# Altium footprint library BL653u.PcbLib: 7 footprints
Each footprint in its own frame and in the unit in brackets; x right, y up, seen from the top. Pads: shape width x height; smd on the part's side, far side on the other; paste and mask are expansions set on the pad; w line width, h text height; cw(c..) or ccw(c..) is an arc to the next point about the centre after c.
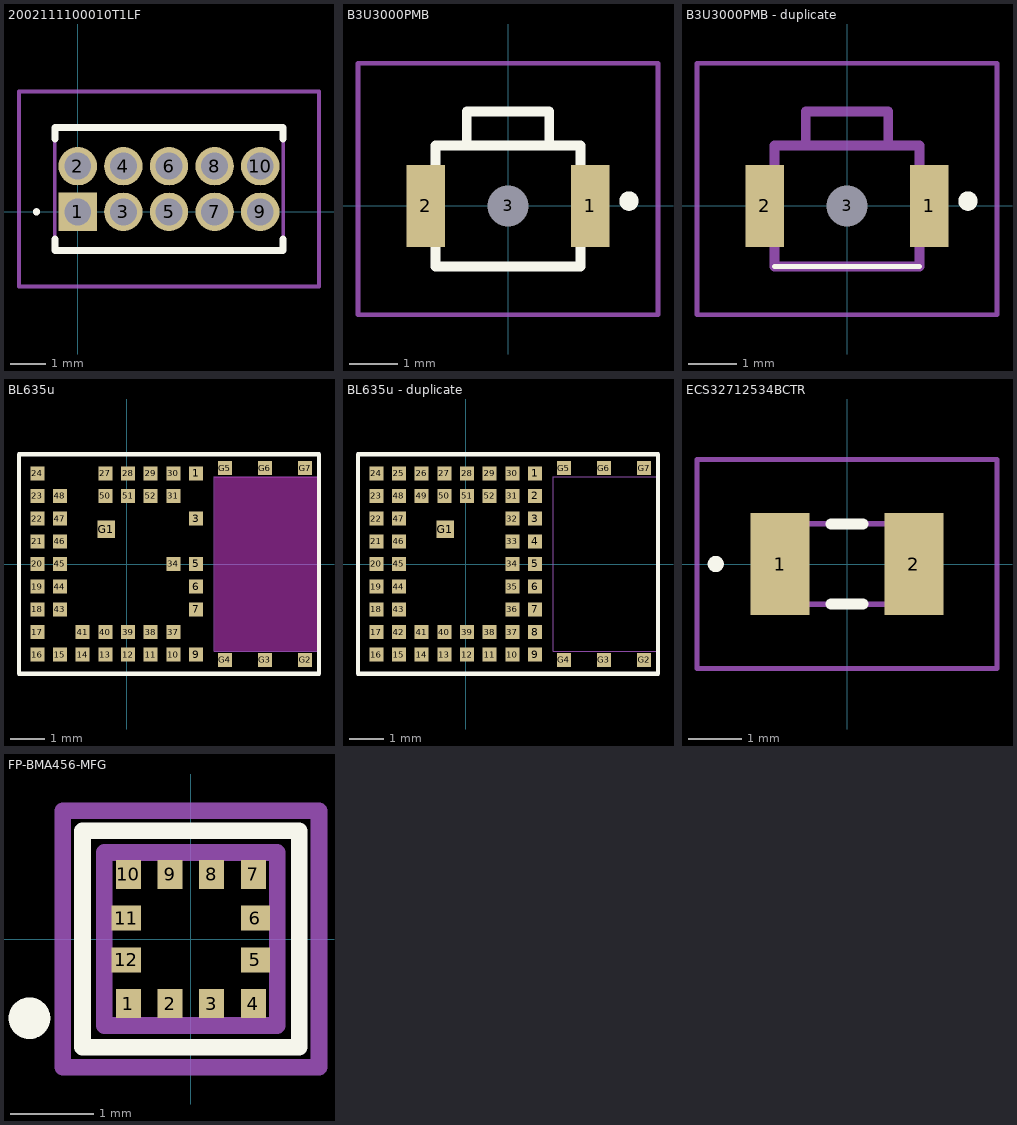
[diagram p0: the footprints below, top view; thin cyan lines are the x and y axes]

## 2002111100010T1LF [mm]
pads (10):
  rect 1.07x1.07 hole 0.75: 1(0,0)
  round 1.07 hole 0.75: 2(0,1.27) 3(1.27,0) 4(1.27,1.27) 5(2.54,0) 6(2.54,1.27) 7(3.81,0) 8(3.81,1.27) 9(5.08,0) 10(5.08,1.27)
Top Overlay:
  lines w0.1: -1.2,0 cw(c-1.15,0) -1.1,0 cw(c-1.15,0) -1.2,0
  lines w0.2: -0.635,-0.765 -0.635,-1.08 5.715,-1.08 5.715,-0.765 ; -0.635,2.035 -0.635,2.35 5.715,2.35 5.715,2.035
Top Component Outline:
  lines w0.1: -0.635,-1.08 -0.635,2.35 5.715,2.35 5.715,-1.08 -0.635,-1.08
Top Assembly:
  lines w0.1: -1.635,-2.08 -1.635,3.35 6.715,3.35 6.715,-2.08 -1.635,-2.08

## B3U3000PMB [mm]
pads (3):
  rect 0.8x1.7 smd: 1(1.7,0) 2(-1.7,0)
  round 0.425 hole 0.85 unplated: 3(0,0)
Top Overlay:
  lines w0.1: -1.5,-1.25 1.5,-1.25
  lines w0.2: -0.85,1.25 -0.85,1.95 0.85,1.95 0.85,1.25 ; -1.5,-1.25 1.5,-1.25 1.5,1.25 -1.5,1.25 -1.5,-1.25 ; 2.5,0 ccw(c2.5,0.1) 2.5,0.2 ccw(c2.5,0.1) 2.5,0
Top Assembly:
  lines w0.1: -3.1,-2.25 -3.1,2.95 3.1,2.95 3.1,-2.25 -3.1,-2.25

## B3U3000PMB - duplicate [mm]
pads (3):
  rect 0.8x1.7 smd: 1(1.7,0) 2(-1.7,0)
  round 0.425 hole 0.85 unplated: 3(0,0)
Top Overlay:
  lines w0.1: -1.5,-1.25 1.5,-1.25
  lines w0.2: 2.5,0 cw(c2.5,0.1) 2.5,0.2 cw(c2.5,0.1) 2.5,0
Top Component Outline:
  lines w0.2: -0.85,1.25 -0.85,1.95 0.85,1.95 0.85,1.25 ; -1.5,-1.25 1.5,-1.25 1.5,1.25 -1.5,1.25 -1.5,-1.25
Top Assembly:
  lines w0.1: -3.1,-2.25 3.1,-2.25 3.1,2.95 -3.1,2.95 -3.1,-2.25

## BL635u [mm]
pads (48):
  rect 0.4x0.4 smd mask+0.051: 1(1.982,2.6) 3(1.982,1.3) 5(1.982,0) 6(1.982,-0.65) 7(1.982,-1.3) 9(1.982,-2.6) 10(1.332,-2.6) 11(0.683,-2.6) 12(0.033,-2.6) 13(-0.617,-2.6) 14(-1.267,-2.6) 15(-1.917,-2.6) 16(-2.567,-2.6) 17(-2.567,-1.95) 18(-2.567,-1.3) 19(-2.567,-0.65) 20(-2.567,0) 21(-2.567,0.65) 22(-2.567,1.3) 23(-2.567,1.95) 24(-2.567,2.6) 27(-0.617,2.6) 28(0.033,2.6) 29(0.682,2.6) 30(1.333,2.6) 31(1.332,1.95) 34(1.332,0) 37(1.333,-1.95) 38(0.682,-1.95) 39(0.033,-1.95) 40(-0.617,-1.95) 41(-1.267,-1.95) 43(-1.917,-1.3) 44(-1.917,-0.65) 45(-1.917,0) 46(-1.917,0.65) 47(-1.917,1.3) 48(-1.917,1.95) 50(-0.617,1.95) 51(0.033,1.95) 52(0.683,1.95) G2(5.107,-2.75) G3(3.957,-2.75) G4(2.807,-2.75) G5(2.808,2.75) G6(3.957,2.75) G7(5.107,2.75)
  rect 0.5x0.5 smd mask+0.051: G1(-0.592,1)
Top Overlay:
  lines w0.127: -3.093,-3.15 -3.093,3.15 5.508,3.15 5.508,-3.15 -3.093,-3.15
Keep-Out Layer:
  rectangle: 2.507,-2.5 5.508,2.5
Top Component Outline:
  lines w0.025: 5.507,-2.5 2.507,-2.5 2.507,2.5 5.507,2.5 ; 5.508,-2.5 5.508,2.5
  text "Keep out Area" at 3.937,2.032 h0.38
Top Assembly:
  lines w0.025: -3.093,-3.15 -3.093,3.15 5.508,3.15 5.508,-3.15 -3.093,-3.15
3D body: height 0.01, standoff 0, extent -1.467,-2.8 -1.067,-2.4
3D body: height 0.01, standoff 0, extent -2.767,-2.8 -2.367,-2.4
3D body: height 0.01, standoff 0, extent -0.817,-2.8 -0.417,-2.4
3D body: height 0.01, standoff 0, extent -0.167,-2.8 0.233,-2.4
3D body: height 0.01, standoff 0, extent -0.817,-2.15 -0.417,-1.75
3D body: height 0.01, standoff 0, extent -1.467,-2.15 -1.067,-1.75
3D body: height 0.01, standoff 0, extent -2.767,-2.15 -2.367,-1.75
3D body: height 0.01, standoff 0, extent -0.167,-2.15 0.233,-1.75
3D body: height 0.01, standoff 0, extent -2.117,-1.5 -1.717,-1.1
3D body: height 0.01, standoff 0, extent -2.767,-1.5 -2.367,-1.1
3D body: height 0.01, standoff 0, extent -2.117,-0.85 -1.717,-0.45
3D body: height 0.01, standoff 0, extent -2.767,-0.85 -2.367,-0.45
3D body: height 0.01, standoff 0, extent -2.117,-0.2 -1.717,0.2
3D body: height 0.01, standoff 0, extent -2.767,-0.2 -2.367,0.2
3D body: height 0.01, standoff 0, extent -2.117,0.45 -1.717,0.85
3D body: height 0.01, standoff 0, extent -2.767,0.45 -2.367,0.85
3D body: height 0.01, standoff 0, extent -0.842,0.75 -0.342,1.25
3D body: height 0.01, standoff 0, extent -2.767,1.1 -2.367,1.5
3D body: height 0.01, standoff 0, extent -2.117,1.1 -1.717,1.5
3D body: height 0.01, standoff 0, extent -0.817,1.75 -0.417,2.15
3D body: height 0.01, standoff 0, extent -2.767,1.75 -2.367,2.15
3D body: height 0.01, standoff 0, extent -2.117,1.75 -1.717,2.15
3D body: height 0.01, standoff 0, extent -0.167,1.75 0.233,2.15
3D body: height 0.01, standoff 0, extent -2.767,2.4 -2.367,2.8
3D body: height 0.01, standoff 0, extent -0.817,2.4 -0.417,2.8
3D body: height 0.01, standoff 0, extent -0.167,2.4 0.233,2.8
3D body: height 0.01, standoff 0, extent 1.132,-0.2 1.532,0.2
3D body: height 0.01, standoff 0, extent 2.607,-2.95 3.007,-2.55
3D body: height 0.01, standoff 0, extent 3.757,-2.95 4.157,-2.55
3D body: height 0.01, standoff 0, extent 4.907,-2.95 5.307,-2.55
3D body: height 0.01, standoff 0, extent 0.483,-2.8 0.883,-2.4
3D body: height 0.01, standoff 0, extent 1.132,-2.8 1.532,-2.4
3D body: height 0.01, standoff 0, extent 1.782,-2.8 2.182,-2.4
3D body: height 0.01, standoff 0, extent 0.483,-2.15 0.883,-1.75
3D body: height 0.01, standoff 0, extent 1.132,-2.15 1.532,-1.75
3D body: height 0.01, standoff 0, extent 1.782,-1.5 2.182,-1.1
3D body: height 0.01, standoff 0, extent 1.782,-0.85 2.182,-0.45
3D body: height 0.01, standoff 0, extent 1.782,-0.2 2.182,0.2
3D body: height 0.01, standoff 0, extent 1.782,1.1 2.182,1.5
3D body: height 0.01, standoff 0, extent 0.483,1.75 0.883,2.15
3D body: height 0.01, standoff 0, extent 1.132,1.75 1.532,2.15
3D body: height 0.01, standoff 0, extent 0.483,2.4 0.883,2.8
3D body: height 0.01, standoff 0, extent 1.132,2.4 1.532,2.8
3D body: height 0.01, standoff 0, extent 1.782,2.4 2.182,2.8
3D body: height 0.01, standoff 0, extent 2.608,2.55 3.007,2.95
3D body: height 0.01, standoff 0, extent 4.907,2.55 5.307,2.95
3D body: height 0.01, standoff 0, extent 3.757,2.55 4.157,2.95
3D body: height 0.01, standoff 0, extent -2.117,-2.8 -1.717,-2.4

## BL635u - duplicate [mm]
pads (59):
  rect 0.4x0.4 smd mask+0.051: 1(1.982,2.6) 2(1.982,1.95) 3(1.982,1.3) 4(1.982,0.65) 5(1.982,0) 6(1.982,-0.65) 7(1.982,-1.3) 8(1.982,-1.95) 9(1.982,-2.6) 10(1.332,-2.6) 11(0.683,-2.6) 12(0.033,-2.6) 13(-0.617,-2.6) 14(-1.267,-2.6) 15(-1.917,-2.6) 16(-2.567,-2.6) 17(-2.567,-1.95) 18(-2.567,-1.3) 19(-2.567,-0.65) 20(-2.567,0) 21(-2.567,0.65) 22(-2.567,1.3) 23(-2.567,1.95) 24(-2.567,2.6) 25(-1.917,2.6) 26(-1.267,2.6) 27(-0.617,2.6) 28(0.033,2.6) 29(0.682,2.6) 30(1.333,2.6) 31(1.332,1.95) 32(1.332,1.3) 33(1.332,0.65) 34(1.332,0) 35(1.332,-0.65) 36(1.332,-1.3) 37(1.333,-1.95) 38(0.682,-1.95) 39(0.033,-1.95) 40(-0.617,-1.95) 41(-1.267,-1.95) 42(-1.917,-1.95) 43(-1.917,-1.3) 44(-1.917,-0.65) 45(-1.917,0) 46(-1.917,0.65) 47(-1.917,1.3) 48(-1.917,1.95) 49(-1.267,1.95) 50(-0.617,1.95) 51(0.033,1.95) 52(0.683,1.95) G2(5.107,-2.75) G3(3.957,-2.75) G4(2.807,-2.75) G5(2.808,2.75) G6(3.957,2.75) G7(5.107,2.75)
  rect 0.5x0.5 smd mask+0.051: G1(-0.592,1)
Top Overlay:
  lines w0.127: -3.093,-3.15 5.508,-3.15 5.508,3.15 -3.093,3.15 -3.093,-3.15
Keep-Out Layer:
  lines w0.025: -3.093,-3.15 -3.093,3.15 5.508,3.15 5.508,-3.15 -3.093,-3.15
Top Component Outline:
  lines w0.025: 5.507,-2.5 2.507,-2.5 2.507,2.5 5.507,2.5 ; 5.508,-2.5 5.508,2.5
  text "Keep out Area" at 3.937,2.032 h0.38
Top Assembly:
  lines w0.025: -3.093,-3.15 5.508,-3.15 5.508,3.15 -3.093,3.15 -3.093,-3.15
3D body: height 0.01, standoff 0, extent 3.757,2.55 4.157,2.95
3D body: height 0.01, standoff 0, extent 4.907,2.55 5.307,2.95
3D body: height 0.01, standoff 0, extent 2.608,2.55 3.007,2.95
3D body: height 0.01, standoff 0, extent 1.782,2.4 2.182,2.8
3D body: height 0.01, standoff 0, extent 1.132,2.4 1.532,2.8
3D body: height 0.01, standoff 0, extent 0.483,2.4 0.883,2.8
3D body: height 0.01, standoff 0, extent 1.782,1.75 2.182,2.15
3D body: height 0.01, standoff 0, extent 1.132,1.75 1.532,2.15
3D body: height 0.01, standoff 0, extent 0.483,1.75 0.883,2.15
3D body: height 0.01, standoff 0, extent 1.782,1.1 2.182,1.5
3D body: height 0.01, standoff 0, extent 1.132,1.1 1.532,1.5
3D body: height 0.01, standoff 0, extent 1.782,0.45 2.182,0.85
3D body: height 0.01, standoff 0, extent 1.132,0.45 1.532,0.85
3D body: height 0.01, standoff 0, extent 1.782,-0.2 2.182,0.2
3D body: height 0.01, standoff 0, extent 1.782,-0.85 2.182,-0.45
3D body: height 0.01, standoff 0, extent 1.132,-0.85 1.532,-0.45
3D body: height 0.01, standoff 0, extent 1.782,-1.5 2.182,-1.1
3D body: height 0.01, standoff 0, extent 1.132,-1.5 1.532,-1.1
3D body: height 0.01, standoff 0, extent 1.782,-2.15 2.182,-1.75
3D body: height 0.01, standoff 0, extent 1.132,-2.15 1.532,-1.75
3D body: height 0.01, standoff 0, extent 0.483,-2.15 0.883,-1.75
3D body: height 0.01, standoff 0, extent 1.782,-2.8 2.182,-2.4
3D body: height 0.01, standoff 0, extent 1.132,-2.8 1.532,-2.4
3D body: height 0.01, standoff 0, extent 0.483,-2.8 0.883,-2.4
3D body: height 0.01, standoff 0, extent 4.907,-2.95 5.307,-2.55
3D body: height 0.01, standoff 0, extent 3.757,-2.95 4.157,-2.55
3D body: height 0.01, standoff 0, extent 2.607,-2.95 3.007,-2.55
3D body: height 0.01, standoff 0, extent 1.132,-0.2 1.532,0.2
3D body: height 0.01, standoff 0, extent -0.167,2.4 0.233,2.8
3D body: height 0.01, standoff 0, extent -0.817,2.4 -0.417,2.8
3D body: height 0.01, standoff 0, extent -1.467,2.4 -1.067,2.8
3D body: height 0.01, standoff 0, extent -2.767,2.4 -2.367,2.8
3D body: height 0.01, standoff 0, extent -2.117,2.4 -1.717,2.8
3D body: height 0.01, standoff 0, extent -0.167,1.75 0.233,2.15
3D body: height 0.01, standoff 0, extent -1.467,1.75 -1.067,2.15
3D body: height 0.01, standoff 0, extent -2.117,1.75 -1.717,2.15
3D body: height 0.01, standoff 0, extent -2.767,1.75 -2.367,2.15
3D body: height 0.01, standoff 0, extent -0.817,1.75 -0.417,2.15
3D body: height 0.01, standoff 0, extent -2.117,1.1 -1.717,1.5
3D body: height 0.01, standoff 0, extent -2.767,1.1 -2.367,1.5
3D body: height 0.01, standoff 0, extent -0.842,0.75 -0.342,1.25
3D body: height 0.01, standoff 0, extent -2.767,0.45 -2.367,0.85
3D body: height 0.01, standoff 0, extent -2.117,0.45 -1.717,0.85
3D body: height 0.01, standoff 0, extent -2.767,-0.2 -2.367,0.2
3D body: height 0.01, standoff 0, extent -2.117,-0.2 -1.717,0.2
3D body: height 0.01, standoff 0, extent -2.767,-0.85 -2.367,-0.45
3D body: height 0.01, standoff 0, extent -2.117,-0.85 -1.717,-0.45
3D body: height 0.01, standoff 0, extent -2.767,-1.5 -2.367,-1.1
3D body: height 0.01, standoff 0, extent -2.117,-1.5 -1.717,-1.1
3D body: height 0.01, standoff 0, extent -0.167,-2.15 0.233,-1.75
3D body: height 0.01, standoff 0, extent -2.767,-2.15 -2.367,-1.75
3D body: height 0.01, standoff 0, extent -2.117,-2.15 -1.717,-1.75
3D body: height 0.01, standoff 0, extent -1.467,-2.15 -1.067,-1.75
3D body: height 0.01, standoff 0, extent -0.817,-2.15 -0.417,-1.75
3D body: height 0.01, standoff 0, extent -0.167,-2.8 0.233,-2.4
3D body: height 0.01, standoff 0, extent -0.817,-2.8 -0.417,-2.4
3D body: height 0.01, standoff 0, extent -2.767,-2.8 -2.367,-2.4
3D body: height 0.01, standoff 0, extent -2.117,-2.8 -1.717,-2.4
3D body: height 0.01, standoff 0, extent -1.467,-2.8 -1.067,-2.4

## ECS32712534BCTR [mm]
pads (2):
  rect 1.1x1.9 smd: 1(-1.25,0) 2(1.25,0)
Top Overlay:
  lines w0.2: -2.5,0 ccw(c-2.45,0) -2.4,0 ccw(c-2.45,0) -2.5,0
  lines w0.203: -2.5,0 -2.4,0 ; -0.3,-0.75 0.3,-0.75 ; -0.3,0.75 0.3,0.75
Top Component Outline:
  lines w0.1: -1.6,-0.75 1.6,-0.75 1.6,0.75 -1.6,0.75 -1.6,-0.75
Top Assembly:
  lines w0.1: -2.8,-1.95 2.8,-1.95 2.8,1.95 -2.8,1.95 -2.8,-1.95
  text ".Designator" at -0.525,-0.137 h1

## FP-BMA456-MFG [mm]
pads (12):
  rect 0.3x0.35 smd paste+0 mask+0: 1(-0.75,-0.775) 2(-0.25,-0.775) 3(0.25,-0.775) 4(0.75,-0.775) 7(0.75,0.775) 8(0.25,0.775) 9(-0.25,0.775) 10(-0.75,0.775)
  rect 0.35x0.3 smd paste+0 mask+0: 5(0.775,-0.25) 6(0.775,0.25) 11(-0.775,0.25) 12(-0.775,-0.25)
Top Overlay:
  circle w0.25: c-1.937,-0.95 r0.125
  lines w0.2: -1.3,-1.3 1.3,-1.3 1.3,1.3 -1.3,1.3 -1.3,-1.3
Top Component Outline:
  lines w0.2: -1.038,-1.038 1.038,-1.038 1.038,1.038 -1.038,1.038 -1.038,-1.038
Top Assembly:
  lines w0.2: -1.538,-1.538 -1.538,1.538 ; -1.538,-1.538 1.538,-1.538 ; -1.538,-1.538 -1.538,1.538 ; -1.538,-1.538 1.538,-1.538 ; -1.538,1.538 1.538,1.538 ; -1.538,1.538 1.538,1.538 ; 1.538,-1.538 1.538,1.538 ; 1.538,-1.538 1.538,1.538
  text ".Designator" at 0,0.188 h1
3D body "IC_Bosch_Sensortec_BMA456_eec.STEP": height 0.7, standoff 0, extent -1,-1 1,1